# EAGLE library part CONNECT_CORE_6UL (library graftel-internal-ic)
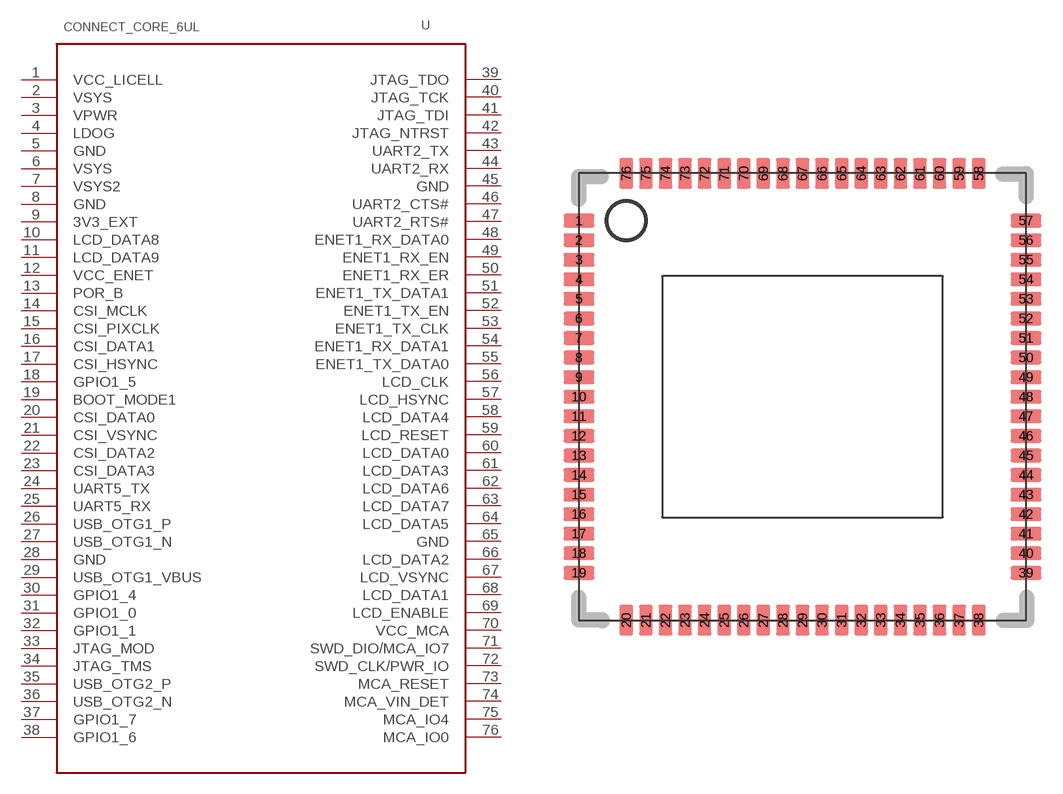
[diagram p36: symbol with the pads of CC6UL; footprint CC6UL]

Designator prefix U

## CONNECT_CORE_6UL  [CC6UL]
1  VCC_LICELL
2  VSYS
3  VPWR
4  LDOG
5  GND
6  VSYS
7  VSYS2
8  GND
9  3V3_EXT
10  LCD_DATA8
11  LCD_DATA9
12  VCC_ENET
13  POR_B
14  CSI_MCLK
15  CSI_PIXCLK
16  CSI_DATA1
17  CSI_HSYNC
18  GPIO1_5
19  BOOT_MODE1
20  CSI_DATA0
21  CSI_VSYNC
22  CSI_DATA2
23  CSI_DATA3
24  UART5_TX
25  UART5_RX
26  USB_OTG1_P
27  USB_OTG1_N
28  GND
29  USB_OTG1_VBUS
30  GPIO1_4
31  GPIO1_0
32  GPIO1_1
33  JTAG_MOD
34  JTAG_TMS
35  USB_OTG2_P
36  USB_OTG2_N
37  GPIO1_7
38  GPIO1_6
39  JTAG_TDO
40  JTAG_TCK
41  JTAG_TDI
42  JTAG_NTRST
43  UART2_TX
44  UART2_RX
45  GND
46  UART2_CTS#
47  UART2_RTS#
48  ENET1_RX_DATA0
49  ENET1_RX_EN
50  ENET1_RX_ER
51  ENET1_TX_DATA1
52  ENET1_TX_EN
53  ENET1_TX_CLK
54  ENET1_RX_DATA1
55  ENET1_TX_DATA0
56  LCD_CLK
57  LCD_HSYNC
58  LCD_DATA4
59  LCD_RESET
60  LCD_DATA0
61  LCD_DATA3
62  LCD_DATA6
63  LCD_DATA7
64  LCD_DATA5
65  GND
66  LCD_DATA2
67  LCD_VSYNC
68  LCD_DATA1
69  LCD_ENABLE
70  VCC_MCA
71  SWD_DIO/MCA_IO7
72  SWD_CLK/PWR_IO
73  MCA_RESET
74  MCA_VIN_DET
75  MCA_IO4
76  MCA_IO0

## Footprint CC6UL (pad centres in mm)
smd 2 x 0.9: 1 -14.5,11.43; 2 -14.5,10.16; 3 -14.5,8.89; 4 -14.5,7.62; 5 -14.5,6.35; 6 -14.5,5.08; 7 -14.5,3.81; 8 -14.5,2.54; 9 -14.5,1.27; 10 -14.5,0; 11 -14.5,-1.27; 12 -14.5,-2.54; 13 -14.5,-3.81; 14 -14.5,-5.08; 15 -14.5,-6.35; 16 -14.5,-7.62; 17 -14.5,-8.89; 18 -14.5,-10.16; 19 -14.5,-11.43; 39 14.5,-11.43; 40 14.5,-10.16; 41 14.5,-8.89; 42 14.5,-7.62; 43 14.5,-6.35; 44 14.5,-5.08; 45 14.5,-3.81; 46 14.5,-2.54; 47 14.5,-1.27; 48 14.5,0; 49 14.5,1.27; 50 14.5,2.54; 51 14.5,3.81; 52 14.5,5.08; 53 14.5,6.35; 54 14.5,7.62; 55 14.5,8.89; 56 14.5,10.16; 57 14.5,11.43
smd 0.9 x 2: 20 -11.43,-14.5; 21 -10.16,-14.5; 22 -8.89,-14.5; 23 -7.62,-14.5; 24 -6.35,-14.5; 25 -5.08,-14.5; 26 -3.81,-14.5; 27 -2.54,-14.5; 28 -1.27,-14.5; 29 0,-14.5; 30 1.27,-14.5; 31 2.54,-14.5; 32 3.81,-14.5; 33 5.08,-14.5; 34 6.35,-14.5; 35 7.62,-14.5; 36 8.89,-14.5; 37 10.16,-14.5; 38 11.43,-14.5; 58 11.43,14.5; 59 10.16,14.5; 60 8.89,14.5; 61 7.62,14.5; 62 6.35,14.5; 63 5.08,14.5; 64 3.81,14.5; 65 2.54,14.5; 66 1.27,14.5; 67 0,14.5; 68 -1.27,14.5; 69 -2.54,14.5; 70 -3.81,14.5; 71 -5.08,14.5; 72 -6.35,14.5; 73 -7.62,14.5; 74 -8.89,14.5; 75 -10.16,14.5; 76 -11.43,14.5